# EAGLE library part AL422B (library Tugas-Akhir-Sistem-Mikroprossesor)
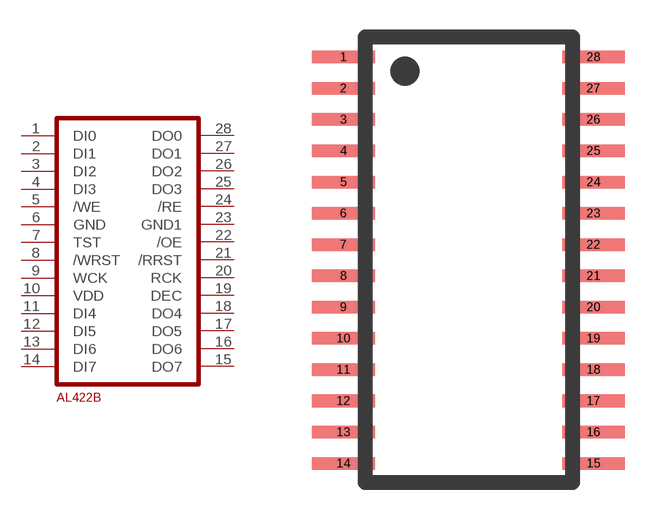
[diagram p0: symbol with the pads of AL422; footprint AL422]

Designator prefix -

## AL422B  [AL422]
1  DI0
2  DI1
3  DI2
4  DI3
5  /WE
6  GND  pwr
7  TST
8  /WRST
9  WCK
10  VDD  pwr
11  DI4
12  DI5
13  DI6
14  DI7
15  DO7
16  DO6
17  DO5
18  DO4
19  DEC
20  RCK
21  /RRST
22  /OE
23  GND1  pwr
24  /RE
25  DO3
26  DO2
27  DO1
28  DO0

## Footprint AL422 (pad centres in mm)
smd 2.54 x 0.51: 1 -5.21,7.61; 2 -5.21,6.34; 3 -5.21,5.07; 4 -5.21,3.8; 5 -5.21,2.53; 6 -5.21,1.26; 7 -5.21,-0.01; 8 -5.21,-1.28; 9 -5.21,-2.55; 10 -5.21,-3.82; 11 -5.21,-5.09; 12 -5.21,-6.36; 13 -5.21,-7.63; 14 -5.21,-8.9; 15 4.95,-8.9; 16 4.95,-7.63; 17 4.95,-6.36; 18 4.95,-5.09; 19 4.95,-3.82; 20 4.95,-2.55; 21 4.95,-1.28; 22 4.95,-0.01; 23 4.95,1.26; 24 4.95,2.53; 25 4.95,3.8; 26 4.95,5.07; 27 4.95,6.34; 28 4.95,7.61